# Altium footprint library EP_euroSUNLOGGER_glonass.PcbLib: 37 footprints (part 1 of 3)
Each footprint in its own frame and in the unit in brackets; x right, y up, seen from the top. Pads: shape width x height; smd on the part's side, far side on the other; paste and mask are expansions set on the pad; w line width, h text height; cw(c..) or ccw(c..) is an arc to the next point about the centre after c.
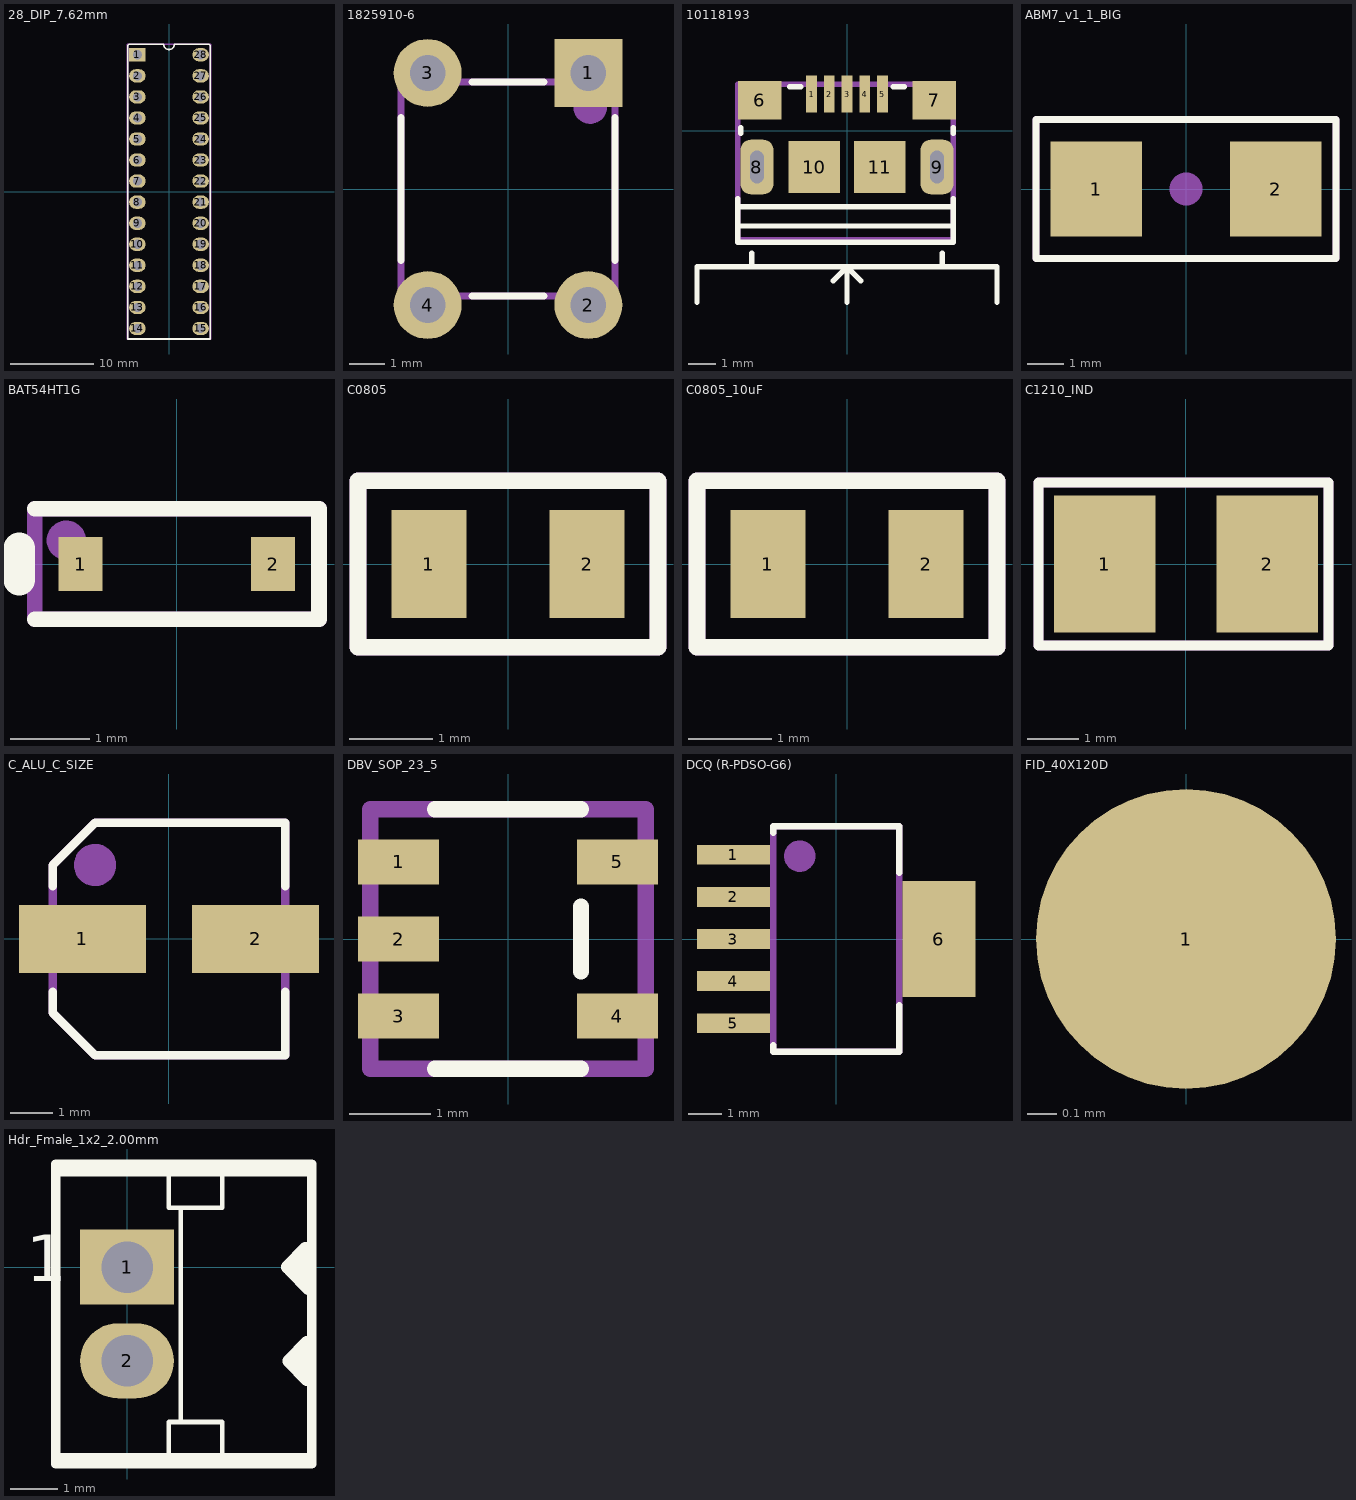
[diagram p0: the footprints below, top view; thin cyan lines are the x and y axes]

## 28_DIP_7.62mm [mm]
pads (28):
  rect 2x1.6 hole 1.1: 1(-3.81,16.51)
  oval 2x1.6 hole 1.1: 2(-3.81,13.97) 3(-3.81,11.43) 4(-3.81,8.89) 5(-3.81,6.35) 6(-3.81,3.81) 7(-3.81,1.27) 8(-3.81,-1.27) 9(-3.81,-3.81) 10(-3.81,-6.35) 11(-3.81,-8.89) 12(-3.81,-11.43) 13(-3.81,-13.97) 14(-3.81,-16.51) 15(3.81,-16.51) 16(3.81,-13.97) 17(3.81,-11.43) 18(3.81,-8.89) 19(3.81,-6.35) 20(3.81,-3.81) 21(3.81,-1.27) 22(3.81,1.27) 23(3.81,3.81) 24(3.81,6.35) 25(3.81,8.89) 26(3.81,11.43) 27(3.81,13.97) 28(3.81,16.51)
Top Overlay:
  lines w0.2: -4.975,-17.78 -4.975,17.625 -4.82,17.78 -0.635,17.78 ccw(c0,17.78) 0.635,17.78 4.82,17.78 4.975,17.625 4.975,-17.78 -4.975,-17.78
Mechanical 13:
  circle w0.5: c-3.81,16.51 r0.31
  lines w0.2: -5,-17.78 5,-17.78 5,17.8 -5,17.8 -5,-17.78
  text ".Designator" at 1,-15 h3
3D body "User Library-28 pin dip.step": height 4.65, standoff -1.57, extent -3.937,-18.05 3.937,17.891

## 28_DIP_7.62mm_SOCKET [mm]
3D body "dil_socket.stp": height 2.8, standoff -4.57, extent -1.24,-34.26 8.86,1.24

## 1825910-6 [mm]
pads (4):
  rect 1.9x1.9 hole 1: 1(2.25,3.25)
  round 1.9 hole 1: 2(2.25,-3.25) 3(-2.25,3.25) 4(-2.25,-3.25)
Top Overlay:
  lines w0.2: -3,-2 -3,2 ; -1,-3 1,-3 ; -1,3 1,3 ; 3,-2 3,2
Mechanical 29:
  circle w0.5: c2.3,2.3 r0.224
  lines w0.2: -3,-3 3,-3 3,3 -3,3 -3,-3
3D body "User Library-FSM4JLH(1825910-5).step": height 5, standoff -3.51, extent -2.995,-3.898 2.995,3.9

## 10118193 [mm]
pads (11):
  rect 0.4x1.35 smd mask+0.05: 1(-1.3,1.338) 2(-0.65,1.338) 3(0,1.338) 4(0.65,1.338) 5(1.3,1.338)
  rect 1.6x1.4 smd: 6(-3.2,1.112) 7(3.2,1.112)
  rrect60% 1.2x2 hole 0.5 slot 1.2 at 90 deg: 8(-3.3,-1.338) 9(3.3,-1.338)
  rect 1.9x1.9 smd: 10(-1.2,-1.338) 11(1.2,-1.338)
Top Overlay:
  lines w0.2: -5.5,-6.3 -5.5,-5 5.5,-5 5.5,-6.3 ; -4,-3.5 3.9,-3.5 ; -4,-2.8 3.9,-2.8 ; -4,-2.5 -4,-4.1 3.9,-4.1 3.9,-2.5 ; -3.9,-0.1 -3.9,0.1 ; -3.5,-5 -3.5,-4.5 ; -2.1,1.6 -1.7,1.6 ; -0.5,-5.5 0,-5 ; 0,-6.3 0,-5 ; 0.5,-5.5 0,-5 ; 1.7,1.6 2.1,1.6 ; 3.5,-5 3.5,-4.5 ; 3.9,-0.1 3.9,0.1
Mechanical 29:
  lines w0.2: -4,-4 3.9,-4 3.9,1.7 -4,1.7 -4,-4
  text ".Designator" at -2.5,-1.5 h0.6
3D body "10118193-0001lfc.stp": height 2.87, standoff -0.73, extent -3.928,-4.111 3.928,1.55

## ABM7_v1_1_BIG [mm]
pads (2):
  rect 2.5x2.6 smd: 1(-2.45,0) 2(2.45,0)
Top Overlay:
  lines w0.2: -4.1,-1.9 -4.1,1.9 4.1,1.9 4.1,-1.9 -4.1,-1.9
Mechanical 29:
  circle w0.5: c0,0 r0.2
  lines w0.2: -4.1,-1.9 -4.1,1.9 4.1,1.9 4.1,-1.9 -4.1,-1.9
  text ".Designator" at -3.8,-1.6 h1.5
3D body "ABM7.STEP": height 1.41, standoff 0.01, extent -2.997,-1.752 2.997,1.753

## BAT54HT1G [mil]
pads (2):
  rect 22x27 smd: 1(-48,0) 2(48,0)
Top Overlay:
  lines w7.87: -70.87,-27.56 70.87,-27.56 70.87,27.56 -70.87,27.56
  lines w15.75: -78.74,-7.87 -78.74,7.87
Mechanical 13:
  circle w11.81: c-55.12,11.81 r3.94
  lines w7.87: -70.87,-27.56 70.87,-27.56 70.87,27.56 -70.87,27.56 -70.87,-27.56
  text ".Designator" at -43.31,-7.87 h23.62
3D body "User Library-SOD323.step": height 39.48, standoff 0.5, extent -49.21,-24.6 49.22,24.61

## C0805 [mm]
pads (2):
  rect 0.9x1.3 smd: 1(-0.95,0) 2(0.95,0)
Top Overlay:
  lines w0.2: -1.8,-1 1.8,-1 1.8,1 -1.8,1 -1.8,-1
Mechanical 13:
  lines w0.2: -1.8,-1 1.8,-1 1.8,1 -1.8,1 -1.8,-1
  text ".Designator" at -1.5,-0.2 h0.6
3D body "User Library-Chip Capacitor2.step": height 0.86, standoff 0, extent -0.8,-0.4 0.8,0.4

## C0805_10uF [mm]
pads (2):
  rect 0.9x1.3 smd: 1(-0.95,0) 2(0.95,0)
Top Overlay:
  lines w0.2: -1.8,-1 -1.8,1 1.8,1 1.8,-1 -1.8,-1
Mechanical 13:
  lines w0.2: -1.8,-1 -1.8,1 1.8,1 1.8,-1 -1.8,-1
  text ".Designator" at -1.5,-0.2 h0.6
3D body "User Library-Chip Capacitor2.step": height 0.86, standoff 0, extent -0.8,-0.4 0.8,0.4
3D body "User Library-Chip Capacitor2_145N.step": height 1.37, standoff 0.51, extent -0.8,-0.4 0.8,0.4

## C1210_IND [mm]
pads (2):
  rect 2x2.7 smd: 1(-1.6,0) 2(1.6,0)
Top Overlay:
  lines w0.2: -2.9,-1.6 2.8,-1.6 2.8,1.6 -2.9,1.6 -2.9,-1.6
Mechanical 29:
  lines w0.2: -2.9,-1.6 2.8,-1.6 2.8,1.6 -2.9,1.6 -2.9,-1.6
  text ".Designator" at -2.2,-0.6 h0.6
3D body "L1210-L.stp": height 2.69, standoff 0, extent -1.702,-1.346 1.702,1.346

## C_ALU_C_SIZE [mm]
pads (2):
  rect 3x1.6 smd: 1(-2.05,0) 2(2.05,0)
Top Overlay:
  lines w0.2: -2.75,-1.25 -2.75,-1.75 ; -2.75,1.25 -2.75,1.75 -1.75,2.75 2.75,2.75 2.75,1.25 ; 2.75,-1.25 2.75,-2.75 -1.75,-2.75 -2.75,-1.75 ; -2.75,-1.75 -2.75,-1.75
Mechanical 29:
  circle w0.5: c-1.75,1.75 r0.25
  lines w0.2: -2.75,-1.75 -1.75,-2.75 2.75,-2.75 2.75,2.75 -1.75,2.75 -2.75,1.75 -2.75,-1.75
  text ".Designator" at -2,0 h0.6
3D body "User Library-capacitor size C.step": height 5.41, standoff -0.01, extent -2.95,-2.65 2.95,2.65

## DBV_SOP_23_5 [mm]
pads (5):
  rect 1x0.55 smd: 1(-1.35,0.95) 2(-1.35,0) 3(-1.35,-0.95) 4(1.35,-0.95) 5(1.35,0.95)
Top Overlay:
  lines w0.2: -0.9,-1.6 0.9,-1.6 ; -0.9,1.6 0.9,1.6 ; 0.9,-0.4 0.9,0.4
Mechanical 13:
  circle w0.2: c-1.3,1 r0.1
  lines w0.2: -1.7,-1.6 -1.7,1.6 1.7,1.6 1.7,-1.6 -1.7,-1.6
  text ".Designator" at -1.2,-0.1 h0.6
3D body "User Library-TPS79333DBVR.step": height 1.61, standoff -0.01, extent -1.514,-1.525 1.514,1.525

## DCQ (R-PDSO-G6) [mm]
pads (6):
  rect 2.2x0.6 smd: 1(-3.1,2.54) 2(-3.1,1.27) 3(-3.1,0) 4(-3.1,-1.27) 5(-3.1,-2.54)
  rect 2.2x3.5 smd: 6(3.1,0)
Top Overlay:
  lines w0.2: -1.9,-3.2 -1.9,-3.4 1.9,-3.4 1.9,-2 ; -1.9,3.2 -1.9,3.4 1.9,3.4 1.9,2
Mechanical 29:
  circle w0.5: c-1.1,2.5 r0.224
  lines w0.2: -1.9,-3.4 1.9,-3.4 1.9,3.4 -1.9,3.4 -1.9,-3.4
  text ".Designator" at -1.2,-0.1 h0.6
3D body "User Library-TPS73701DCQ.step": height 1.79, standoff -0.01, extent -3.63,-3.275 3.63,3.275

## FID_40X120D [mil]
pads (1):
  round 40 smd paste-40 mask+40: 1(0,0)

## HDR_3D_FMALE_and_MALE [mm]
3D body "DF3-2S-2C.stp": height 6.89, standoff 0.89, extent -11.952,13.52 -7.352,20.32
3D body "DF3-2P-2DSA.stp": height 6.55, standoff 0.55, extent -12.152,9.88 -7.152,17.78

## HDR_3D_FMALE_DF3-2S-2C [mm]
3D body "DF3-2S-2C.stp": height 6.89, standoff 0.89, extent -2.286,-3.4 2.314,3.4

## Hdr_Fmale_1x2_2.00mm [mm]
pads (2):
  rect 2x1.6 hole 1.1: 1(0,0)
  oval 2x1.6 hole 1.1: 2(0,-2)
Top Overlay:
  lines w0.1: 0.889,-4.064 0.889,-3.302 2.032,-3.302 2.032,-4.064 ; 0.889,2.032 0.889,1.27 2.032,1.27 2.032,2.032 ; 1.143,-3.302 1.143,1.27
  lines w0.2: -1.524,-4.064 3.937,-4.064 ; -1.524,2.032 3.81,2.032 ; -1.524,-4.2 -1.524,2.2 3.937,2.2 3.937,-4.2 -1.524,-4.2
  lines w0.3: 3.492,-0.064 3.873,-0.445 ; 3.81,-0.381 3.81,0.381 3.429,0 3.81,0 ; 3.842,-2 3.461,-2 ; 3.461,-2 3.842,-1.619 3.842,-2.381 3.461,-2
  text "1" at -2.15,-0.3 h1
Mechanical 13:
  circle w0.5: c-0.508,0.279 r0.229
  text ".Designator" at -0.381,-2.54 h1.5
3D body "DF3-2P-2DSA.stp": height 5.01, standoff -2.89, extent -1.317,-4.016 3.683,1.984